# Altium integrated library Carte Détéction Librairie.IntLib: 7 symbols
Pins are listed as number, name and electrical type; pins without a type are passive.

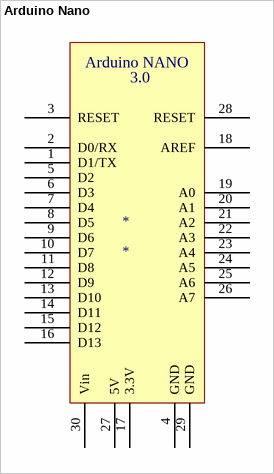
[diagram p0: symbol Arduino Nano]

## Arduino Nano
designator *
footprint Arduino Nano FootPrint
pins: 1 D1/TX, 2 D0/RX, 3 RESET, 4 GND, 5 D2, 6 D3, 7 D4, 8 D5, 9 D6, 10 D7, 11 D8, 12 D9, 13 D10, 14 D11, 15 D12, 16 D13, 17 3.3V, 18 AREF, 19 A0, 20 A1, 21 A2, 22 A3, 23 A4, 24 A5, 25 A6, 26 A7, 27 5V, 28 RESET, 29 GND, 30 Vin
text: Arduino NANO; 3.0


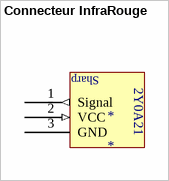
[diagram p1: symbol Connecteur InfraRouge]

## Connecteur InfraRouge
designator *
footprint Connecteur InfraRouge
pins: 1 Signal (out), 2 VCC (in), 3 GND
text: Sharp; 2Y0A21


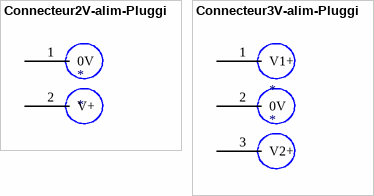
[diagram p2: symbols Connecteur2V-alim-Pluggi to Connecteur3V-alim-Pluggi]

## Connecteur2V-alim-Pluggi
designator *
footprint Connecteur2V-Alim-Pluggi
pins: 1 0V, 2 V+

## Connecteur3V-alim-Pluggi
designator *
footprint CONNECTEUR3V-ALIM-PLUGGI
pins: 1 V1+, 2 0V, 3 V2+


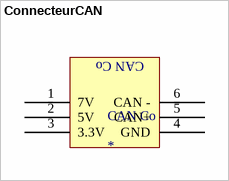
[diagram p3: symbol ConnecteurCAN]

## ConnecteurCAN
designator CAN Co
footprint CAN Connecteur
pins: 1 7V, 2 5V, 3 3.3V, 4 GND, 5 CAN+, 6 CAN -


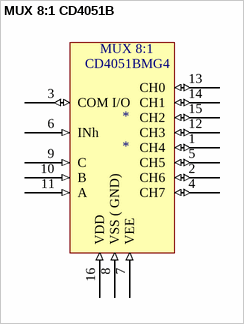
[diagram p4: symbol MUX 8:1 CD4051B]

## MUX 8:1 CD4051B
designator *
footprint MUX 8:1*
pins: 1 CH4 (io), 2 CH6 (io), 3 COM I/O (io), 4 CH7 (io), 5 CH5 (io), 6 INh (in), 7 VEE (in) "Negative Power Input", 8 VSS ( GND) (in), 9 C (in) "Selection Channel C (MSB)", 10 B (in) "Selection Channel B", 11 A (in) "Salection Channel A (LSB)", 12 CH3 (io), 13 CH0 (io), 14 CH1 (io), 15 CH2 (io), 16 VDD (in) "Positive Power Inuput"
text: MUX 8:1; CD4051BMG4


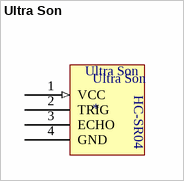
[diagram p5: symbol Ultra Son]

## Ultra Son
designator Ultra Son
footprint Conecteur UltraSon
pins: 1 VCC (in), 2 TRIG, 3 ECHO, 4 GND
text: HC-SR04